# EAGLE library part S15B-PH (library con-JST PH)
JST PH series header 2.00mm pitch disconnectable crimp style connectors, horizontal (side entry type), 15 pins
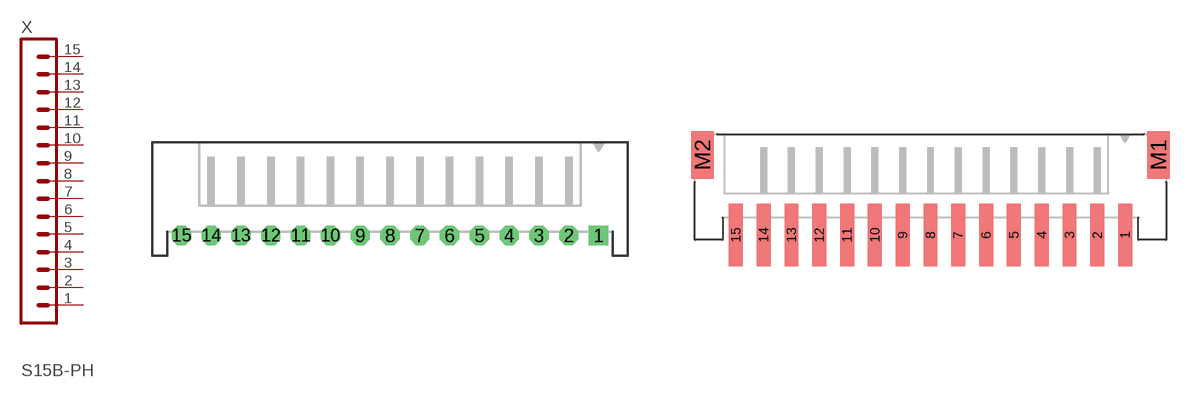
[diagram p20: symbol with the pads of S15B-PH-K-S; footprints S15B-PH-K-S, S15B-PH-SM4-TB]

Designator prefix X

## S15B-PH-K-S  [S15B-PH-K-S]
1  1  pas
2  2  pas
3  3  pas
4  4  pas
5  5  pas
6  6  pas
7  7  pas
8  8  pas
9  9  pas
10  10  pas
11  11  pas
12  12  pas
13  13  pas
14  14  pas
15  15  pas

## S15B-PH-KL  [S15B-PH-K-S]
Pads as for S15B-PH-K-S

## S15B-PH-SM4-TB  [S15B-PH-SM4-TB]
Pads as for S15B-PH-K-S

## Footprint S15B-PH-K-S (pad centres in mm)
JST PH series header 2.00mm pitch disconnectable crimp style connectors, through-hole horizontal (side entry type), 15 pins
drill 0.7 pad 1.3 square: 1 14,0
drill 0.7 pad 1.3 octagon: 2 12,0; 3 10,0; 4 8,0; 5 6,0; 6 4,0; 7 2,0; 8 0,0; 9 -2,0; 10 -4,0; 11 -6,0; 12 -8,0; 13 -10,0; 14 -12,0; 15 -14,0

## Footprint S15B-PH-SM4-TB (pad centres in mm)
JST PH series header 2.00mm pitch disconnectable crimp style connectors, SMT horizontal (side entry type), 15 pins
smd 1 x 4.5: 1 14,0; 2 12,0; 3 10,0; 4 8,0; 5 6,0; 6 4,0; 7 2,0; 8 0,0; 9 -2,0; 10 -4,0; 11 -6,0; 12 -8,0; 13 -10,0; 14 -12,0; 15 -14,0
smd 1.6 x 3.4: M1 16.4,5.75; M2 -16.4,5.75